# Altium footprint library PcbLib1.PcbLib: 19 footprints (part 1 of 2)
Each footprint in its own frame and in the unit in brackets; x right, y up, seen from the top. Pads: shape width x height; smd on the part's side, far side on the other; paste and mask are expansions set on the pad; w line width, h text height; cw(c..) or ccw(c..) is an arc to the next point about the centre after c.
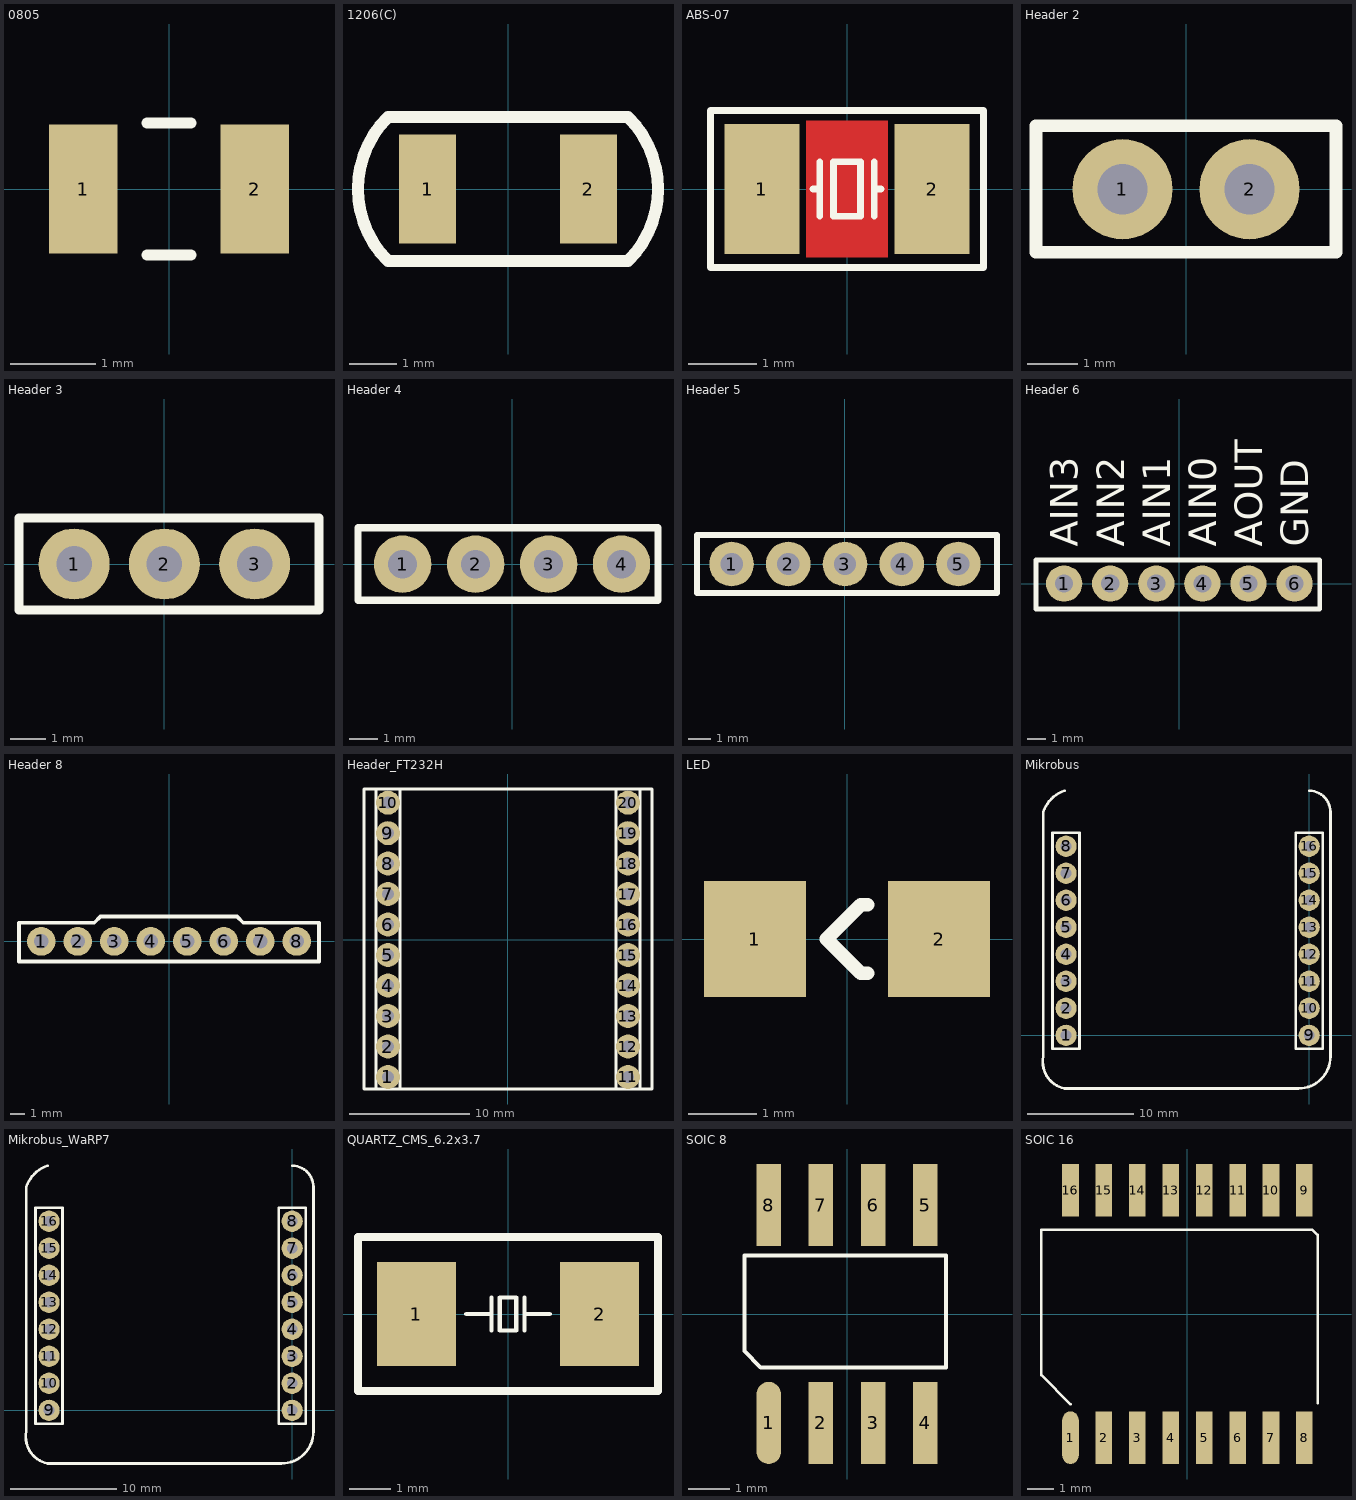
[diagram p0: the footprints below, top view; thin cyan lines are the x and y axes]

## 0805 [mm]
pads (2):
  rect 0.8x1.5 smd: 1(-1,0) 2(1,0)
Top Overlay:
  lines w0.127: -0.257,-0.771 0.257,-0.771 ; -0.257,0.771 0.257,0.771
3D body "0805_RES.stp": height 0.61, standoff 0, extent -0.974,-0.617 1.026,0.633

## 1206(C) [mm]
pads (2):
  rect 1.2x2.3 smd: 1(-1.7,0) 2(1.7,0)
Top Overlay:
  lines w0.254: -2.54,-1.524 cw(c-1.016,0) -2.54,1.524 2.54,1.524 cw(c1.016,0) 2.54,-1.524 -2.54,-1.524
3D body "_1206 SMD Resistor.step": height 1, standoff 0, extent -1.6,-0.8 1.6,0.8

## ABS-07 [mm]
pads (2):
  rect 1.1x1.9 smd: 1(-1.25,0) 2(1.25,0)
Top Layer:
  pour cut-out: -0.6,1 0.6,1 0.6,-1 -0.6,-1
Top Overlay:
  lines w0.1: -0.5,0 -0.4,0 ; -0.4,-0.4 -0.4,0.4 ; 0.4,-0.4 0.4,0.4 ; 0.4,0 0.5,0 ; -2,-1.15 -2,1.15 2,1.15 2,-1.15 -2,-1.15 ; -0.2,-0.4 0.2,-0.4 0.2,0.4 -0.2,0.4 -0.2,-0.4
3D body "User Library-ABS07.STEP": height 0.91, standoff 0, extent -1.61,-0.76 1.61,0.76

## Header 2 [mm]
pads (2):
  round 2 hole 1: 1(-1.27,0) 2(1.27,0)
Top Overlay:
  lines w0.254: -3,-1.26 -3,1.27 3,1.27 3,-1.26 -3,-1.26
3D body "6188.stp": height 9.27, standoff -2.88, extent -2.54,-1.27 2.54,1.27

## Header 3 [mm]
pads (3):
  round 2 hole 1: 1(-2.54,0) 2(0,0) 3(2.54,0)
Top Overlay:
  lines w0.254: -4.09,-1.3 -4.09,1.3 4.35,1.3 4.35,1 4.35,-1.3 -4.09,-1.3
3D body "65779.stp": height 8.77, standoff -2.77, extent -3.81,-1.27 3.81,1.27

## Header 4 [mm]
pads (4):
  round 2 hole 1: 1(-3.81,0) 2(-1.27,0) 3(1.27,0) 4(3.81,0)
Top Overlay:
  lines w0.254: -5.36,-1.26 5.08,-1.26 5.08,1.27 -4.425,1.27 -5.36,1.27 -5.36,-1.26

## Header 5 [mm]
pads (5):
  round 2 hole 1: 1(-5.08,0) 2(-2.54,0) 3(0,0) 4(2.54,0) 5(5.08,0)
Top Overlay:
  lines w0.254: -6.63,-1.3 -6.63,1.3 6.81,1.3 6.81,-1.3 -6.63,-1.3

## Header 6 [mm]
pads (6):
  round 2 hole 1: 1(-6.35,0) 2(-3.81,0) 3(-1.27,0) 4(1.27,0) 5(3.81,0) 6(6.35,0)
Top Overlay:
  lines w0.254: -7.9,-1.4 7.738,-1.4 7.738,1.3 -7.9,1.3 -7.9,-1.4
  text "GND" at 7.112,2.032 h1.52
  text "AOUT" at 4.572,2.032 h1.52
  text "AIN0" at 2.032,2.032 h1.52
  text "AIN1" at -0.508,2.032 h1.52
  text "AIN2" at -3.048,2.032 h1.52
  text "AIN3" at -5.588,2.032 h1.52
3D body "7731510106LF.stp": height 2.5, standoff -2.53, extent -7.42,-9.606 7.42,0.4

## Header 8 [mm]
pads (8):
  round 2 hole 1: 1(-8.89,0) 2(-6.35,0) 3(-3.81,0) 4(-1.27,0) 5(1.27,0) 6(3.81,0) 7(6.35,0) 8(8.89,0)
Top Overlay:
  lines w0.254: -10.44,-1.4 -10.44,1.3 -5.198,1.3 -4.768,1.73 4.738,1.73 5.168,1.3 10.44,1.3 10.44,-1.4 -10.44,-1.4

## Header_FT232H [mm]
pads (20):
  round 2 hole 1: 1(-10,-11.43) 2(-10,-8.89) 3(-10,-6.35) 4(-10,-3.81) 5(-10,-1.27) 6(-10,1.27) 7(-10,3.81) 8(-10,6.35) 9(-10,8.89) 10(-10,11.43) 11(10,-11.43) 12(10,-8.89) 13(10,-6.35) 14(10,-3.81) 15(10,-1.27) 16(10,1.27) 17(10,3.81) 18(10,6.35) 19(10,8.89) 20(10,11.43)
Top Overlay:
  lines w0.254: -12,-12.43 -12,12.57 12,12.57 12,-12.43 -12,-12.43 ; -11,-12.43 -11,12.57 -9,12.57 -9,-12.43 -11,-12.43 ; 9,-12.43 9,12.57 11,12.57 11,-12.43 9,-12.43

## LED [mm]
pads (2):
  rect 1.5x1.7 smd: 1(-1.35,0) 2(1.35,0)
Top Overlay:
  lines w0.2: 0.3,-0.5 0.2,-0.5 -0.3,0 0.2,0.5 0.3,0.5
3D body "User Library-Wurth Elektronik WL-SMCW 1206 (3216) LED Base (Separate Lens).STEP": height 0.62, standoff 0, extent -1.6,-0.8 1.6,0.8

## Mikrobus [mm]
pads (16):
  round 2 hole 1: 1(-22.86,0) 2(-22.86,2.54) 3(-22.86,5.08) 4(-22.86,7.62) 5(-22.86,10.16) 6(-22.86,12.7) 7(-22.86,15.24) 8(-22.86,17.78) 9(0,0) 10(0,2.54) 11(0,5.08) 12(0,7.62) 13(0,10.16) 14(0,12.7) 15(0,15.24) 16(0,17.78)
Top Overlay:
  lines w0.254: -23,23 ccw(c-22,20) -25,21 -25,-2 ccw(c-22.5,-2.5) -23,-5 -1,-5 ccw(c-1,-2) 2,-2 2,21 ccw(c0,21) 0,23 ; -24.13,-1.27 -24.13,19.05 -21.59,19.05 -21.59,-1.27 -24.13,-1.27 ; -1.27,-1.27 1.27,-1.27 1.27,19.05 -1.27,19.05 -1.27,-1.27

## Mikrobus_WaRP7 [mm]
pads (16):
  round 2 hole 1: 1(0,0) 2(0,2.54) 3(0,5.08) 4(0,7.62) 5(0,10.16) 6(0,12.7) 7(0,15.24) 8(0,17.78) 9(-22.86,0) 10(-22.86,2.54) 11(-22.86,5.08) 12(-22.86,7.62) 13(-22.86,10.16) 14(-22.86,12.7) 15(-22.86,15.24) 16(-22.86,17.78)
Top Overlay:
  lines w0.254: -23,23 ccw(c-22,20) -25,21 -25,-2 ccw(c-22.5,-2.5) -23,-5 -1,-5 ccw(c-1,-2) 2,-2 2,21 ccw(c0,21) 0,23 ; -24.13,-1.27 -24.13,19.05 -21.59,19.05 -21.59,-1.27 -24.13,-1.27 ; -1.27,-1.27 1.27,-1.27 1.27,19.05 -1.27,19.05 -1.27,-1.27

## QUARTZ_CMS_6.2x3.7 [mm] "QUARTZ_CMS_6.2x3.7"
pads (2):
  rect 1.9x2.5 smd: 1(-2.2,0) 2(2.2,0)
Top Overlay:
  lines w0.1: -1,0 -0.4,0 ; -0.4,-0.4 -0.4,0.4 ; 0.4,-0.4 0.4,0.4 ; 0.4,0 1,0 ; -0.2,-0.4 -0.2,0.4 0.2,0.4 0.2,-0.4 -0.2,-0.4
  lines w0.2: -3.6,-1.85 -3.6,1.85 3.6,1.85 3.6,-1.85 -3.6,-1.85

## SOIC 8 [mm]
pads (8):
  oval 0.6x2 smd: 1(-1.905,-2.65)
  rect 0.6x2 smd: 2(-0.635,-2.65) 3(0.635,-2.65) 4(1.905,-2.65) 5(1.905,2.65) 6(0.635,2.65) 7(-0.635,2.65) 8(-1.905,2.65)
Top Overlay:
  lines w0.1: -2.495,-0.905 -2.495,1.42 -0.888,1.42 -0.164,1.42 0.082,1.42 0.806,1.42 2.413,1.42 2.413,-1.3 -2.1,-1.3 -2.495,-0.905
3D body "User Library-SOIC8_JEDEC_MS-012AA.step": height 1.75, standoff -0.01, extent -2.495,-3.049 2.505,3.15

## SOIC 16 [mm]
pads (16):
  oval 0.63x2 smd: 1(-4.445,-4.7)
  rect 0.63x2 smd: 2(-3.175,-4.7) 3(-1.905,-4.7) 4(-0.635,-4.7) 5(0.635,-4.7) 6(1.905,-4.7) 7(3.175,-4.7) 8(4.445,-4.7) 9(4.445,4.7) 10(3.175,4.7) 11(1.905,4.7) 12(0.635,4.7) 13(-0.635,4.7) 14(-1.905,4.7) 15(-3.175,4.7) 16(-4.445,4.7)
Top Overlay:
  lines w0.1: -4.445,-3.43 -5.555,-2.32 -5.555,1.015 -5.555,3.2 4.745,3.2 4.945,3 4.945,2.7 4.945,1.7 4.945,-3.38
3D body "User Library-SOIC16_Wide_JEDEC_MS-013AA.step": height 3.22, standoff 0.58, extent -5.205,-5.115 5.295,5.515